# Altium schematic symbol library varistor.SCHLIB: 116 symbols
Pins are listed as number, name and electrical type; pins without a type are passive.

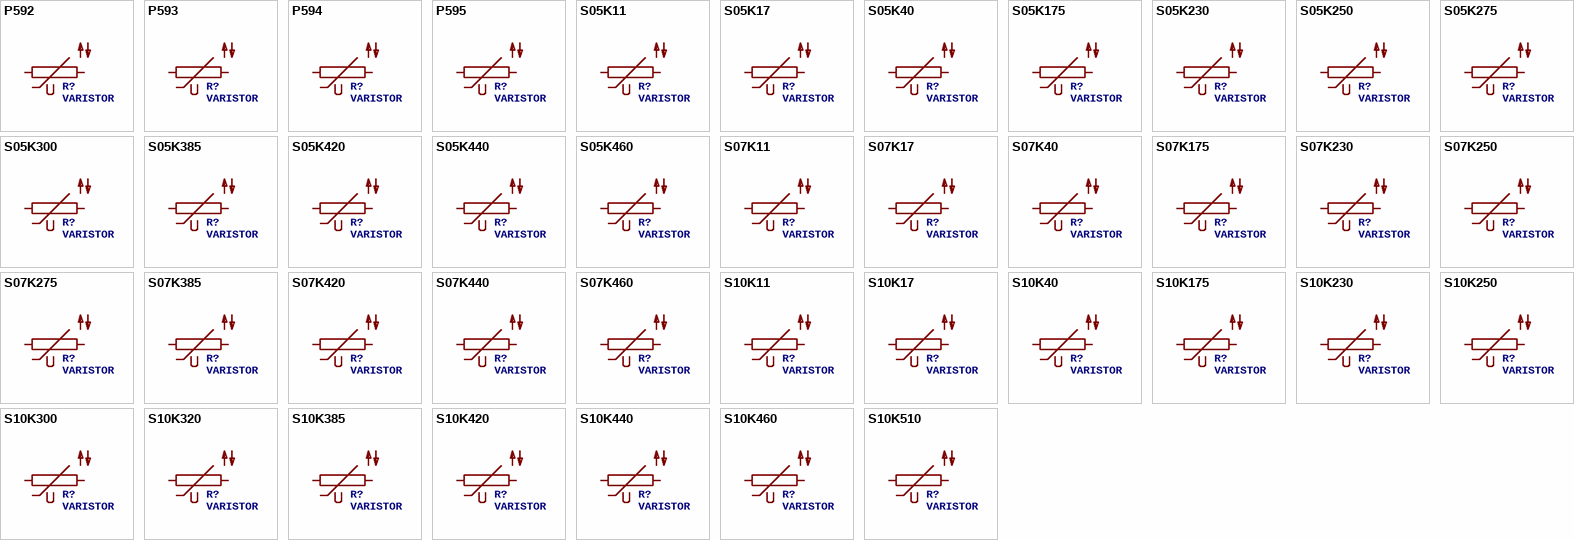
[diagram p0: symbols P592 to S10K510]

## P592
designator R?, comment VARISTOR
footprint P592
pins: 1, 2

## P593
designator R?, comment VARISTOR
footprint P593
pins: 1, 2

## P594
designator R?, comment VARISTOR
footprint P594
pins: 1, 2

## P595
designator R?, comment VARISTOR
footprint P595
pins: 1, 2

## S05K11
designator R?, comment VARISTOR
footprint S05K11
pins: 1, 2

## S05K17
designator R?, comment VARISTOR
footprint S05K17
pins: 1, 2

## S05K40
designator R?, comment VARISTOR
footprint S05K40
pins: 1, 2

## S05K175
designator R?, comment VARISTOR
footprint S05K175
pins: 1, 2

## S05K230
designator R?, comment VARISTOR
footprint S05K230
pins: 1, 2

## S05K250
designator R?, comment VARISTOR
footprint S05K250
pins: 1, 2

## S05K275
designator R?, comment VARISTOR
footprint S05K275
pins: 1, 2

## S05K300
designator R?, comment VARISTOR
footprint S05K300
pins: 1, 2

## S05K385
designator R?, comment VARISTOR
footprint S05K385
pins: 1, 2

## S05K420
designator R?, comment VARISTOR
footprint S05K420
pins: 1, 2

## S05K440
designator R?, comment VARISTOR
footprint S05K440
pins: 1, 2

## S05K460
designator R?, comment VARISTOR
footprint S05K460
pins: 1, 2

## S07K11
designator R?, comment VARISTOR
footprint S07K11
pins: 1, 2

## S07K17
designator R?, comment VARISTOR
footprint S07K17
pins: 1, 2

## S07K40
designator R?, comment VARISTOR
footprint S07K40
pins: 1, 2

## S07K175
designator R?, comment VARISTOR
footprint S07K175
pins: 1, 2

## S07K230
designator R?, comment VARISTOR
footprint S07K230
pins: 1, 2

## S07K250
designator R?, comment VARISTOR
footprint S07K250
pins: 1, 2

## S07K275
designator R?, comment VARISTOR
footprint S07K275
pins: 1, 2

## S07K385
designator R?, comment VARISTOR
footprint S07K385
pins: 1, 2

## S07K420
designator R?, comment VARISTOR
footprint S07K420
pins: 1, 2

## S07K440
designator R?, comment VARISTOR
footprint S07K440
pins: 1, 2

## S07K460
designator R?, comment VARISTOR
footprint S07K460
pins: 1, 2

## S10K11
designator R?, comment VARISTOR
footprint S10K11
pins: 1, 2

## S10K17
designator R?, comment VARISTOR
footprint S10K17
pins: 1, 2

## S10K40
designator R?, comment VARISTOR
footprint S10K40
pins: 1, 2

## S10K175
designator R?, comment VARISTOR
footprint S10K175
pins: 1, 2

## S10K230
designator R?, comment VARISTOR
footprint S10K230
pins: 1, 2

## S10K250
designator R?, comment VARISTOR
footprint S10K250
pins: 1, 2

## S10K300
designator R?, comment VARISTOR
footprint S10K300
pins: 1, 2

## S10K320
designator R?, comment VARISTOR
footprint S10K320
pins: 1, 2

## S10K385
designator R?, comment VARISTOR
footprint S10K385
pins: 1, 2

## S10K420
designator R?, comment VARISTOR
footprint S10K420
pins: 1, 2

## S10K440
designator R?, comment VARISTOR
footprint S10K440
pins: 1, 2

## S10K460
designator R?, comment VARISTOR
footprint S10K460
pins: 1, 2

## S10K510
designator R?, comment VARISTOR
footprint S10K510
pins: 1, 2

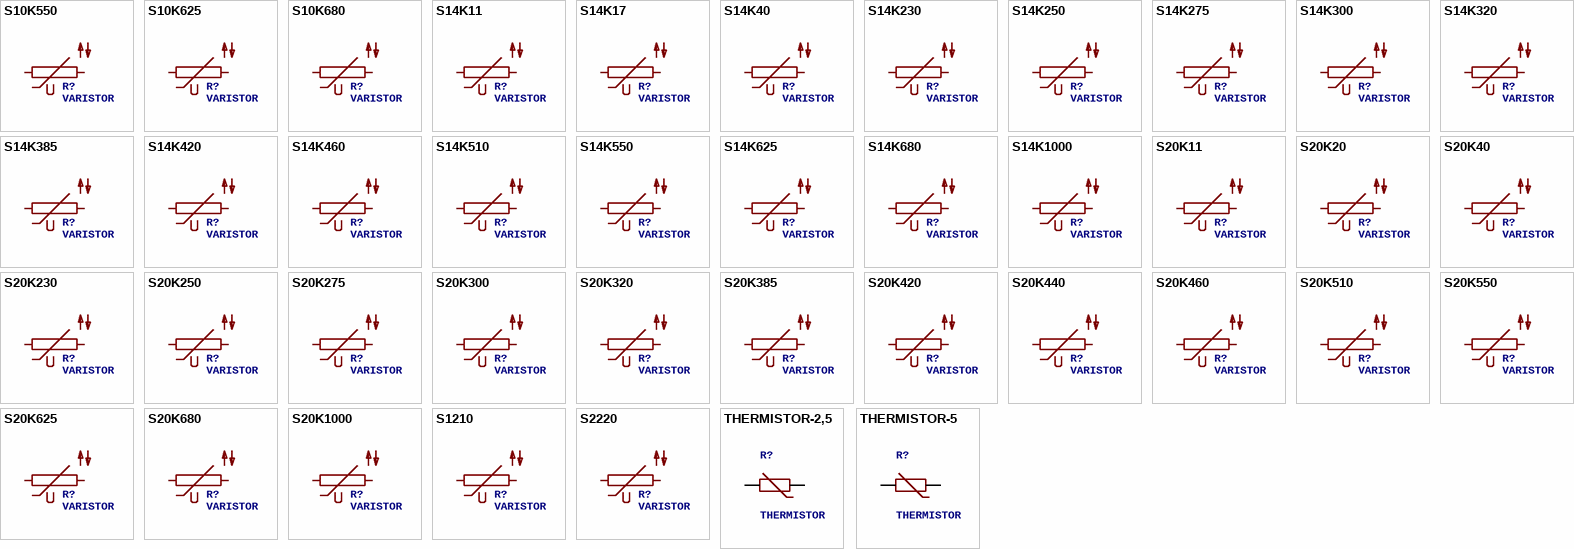
[diagram p1: symbols S10K550 to THERMISTOR-5]

## S10K550
designator R?, comment VARISTOR
footprint S10K550
pins: 1, 2

## S10K625
designator R?, comment VARISTOR
footprint S10K625
pins: 1, 2

## S10K680
designator R?, comment VARISTOR
footprint S10K680
pins: 1, 2

## S14K11
designator R?, comment VARISTOR
footprint S14K11
pins: 1, 2

## S14K17
designator R?, comment VARISTOR
footprint S14K17
pins: 1, 2

## S14K40
designator R?, comment VARISTOR
footprint S14K40
pins: 1, 2

## S14K230
designator R?, comment VARISTOR
footprint S14K230
pins: 1, 2

## S14K250
designator R?, comment VARISTOR
footprint S14K250
pins: 1, 2

## S14K275
designator R?, comment VARISTOR
footprint S14K275
pins: 1, 2

## S14K300
designator R?, comment VARISTOR
footprint S14K300
pins: 1, 2

## S14K320
designator R?, comment VARISTOR
footprint S14K320
pins: 1, 2

## S14K385
designator R?, comment VARISTOR
footprint S14K385
pins: 1, 2

## S14K420
designator R?, comment VARISTOR
footprint S14K420
pins: 1, 2

## S14K460
designator R?, comment VARISTOR
footprint S14K460
pins: 1, 2

## S14K510
designator R?, comment VARISTOR
footprint S14K510
pins: 1, 2

## S14K550
designator R?, comment VARISTOR
footprint S14K550
pins: 1, 2

## S14K625
designator R?, comment VARISTOR
footprint S14K625
pins: 1, 2

## S14K680
designator R?, comment VARISTOR
footprint S14K680
pins: 1, 2

## S14K1000
designator R?, comment VARISTOR
footprint S14K1000
pins: 1, 2

## S20K11
designator R?, comment VARISTOR
footprint S20K11
pins: 1, 2

## S20K20
designator R?, comment VARISTOR
footprint S20K20
pins: 1, 2

## S20K40
designator R?, comment VARISTOR
footprint S20K40
pins: 1, 2

## S20K230
designator R?, comment VARISTOR
footprint S20K230
pins: 1, 2

## S20K250
designator R?, comment VARISTOR
footprint S20K250
pins: 1, 2

## S20K275
designator R?, comment VARISTOR
footprint S20K275
pins: 1, 2

## S20K300
designator R?, comment VARISTOR
footprint S20K300
pins: 1, 2

## S20K320
designator R?, comment VARISTOR
footprint S20K320
pins: 1, 2

## S20K385
designator R?, comment VARISTOR
footprint S20K385
pins: 1, 2

## S20K420
designator R?, comment VARISTOR
footprint S20K420
pins: 1, 2

## S20K440
designator R?, comment VARISTOR
footprint S20K440
pins: 1, 2

## S20K460
designator R?, comment VARISTOR
footprint S20K460
pins: 1, 2

## S20K510
designator R?, comment VARISTOR
footprint S20K510
pins: 1, 2

## S20K550
designator R?, comment VARISTOR
footprint S20K550
pins: 1, 2

## S20K625
designator R?, comment VARISTOR
footprint S20K625
pins: 1, 2

## S20K680
designator R?, comment VARISTOR
footprint S20K680
pins: 1, 2

## S20K1000
designator R?, comment VARISTOR
footprint S20K1000
pins: 1, 2

## S1210
designator R?, comment VARISTOR
footprint S1210
pins: 1, 2

## S2220
designator R?, comment VARISTOR
footprint S2220
pins: 1, 2

## THERMISTOR-2,5
designator R?, comment THERMISTOR
footprint RS-2,5
pins: 1, 2

## THERMISTOR-5
designator R?, comment THERMISTOR
footprint R-5
pins: 1, 2

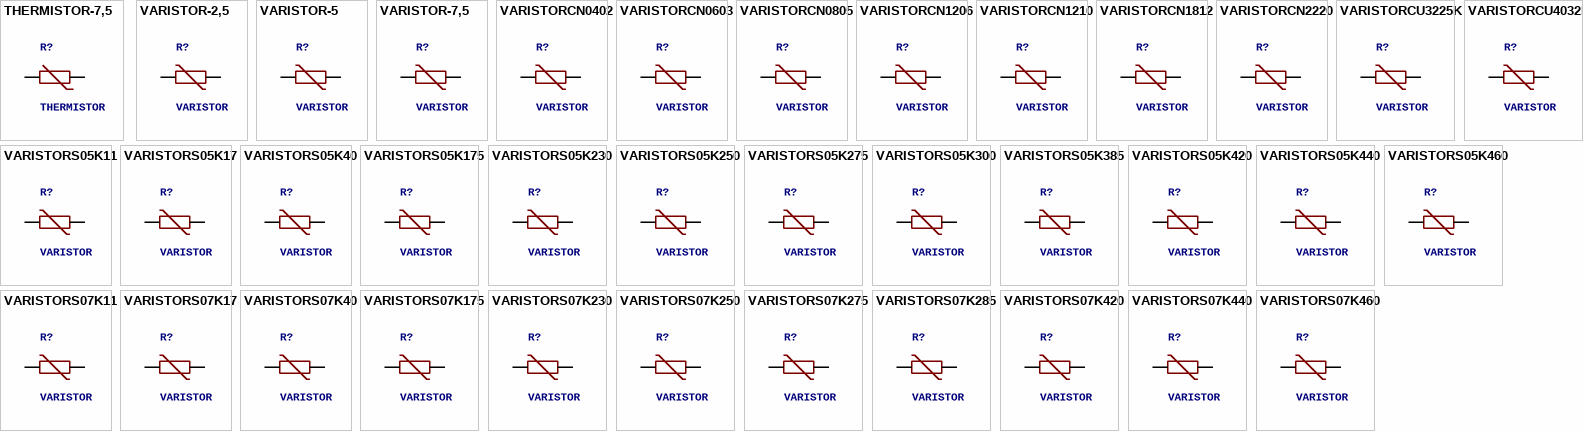
[diagram p2: symbols THERMISTOR-7,5 to VARISTORS07K460]

## THERMISTOR-7,5
designator R?, comment THERMISTOR
footprint R-7,5
pins: 1, 2

## VARISTOR-2,5
designator R?, comment VARISTOR
footprint R-5
pins: 1, 2

## VARISTOR-5
designator R?, comment VARISTOR
footprint R-5
pins: 1, 2

## VARISTOR-7,5
designator R?, comment VARISTOR
footprint R-7,5
pins: 1, 2

## VARISTORCN0402
designator R?, comment VARISTOR
footprint CT/CN0402
pins: 1, 2

## VARISTORCN0603
designator R?, comment VARISTOR
footprint CT/CN0603
pins: 1, 2

## VARISTORCN0805
designator R?, comment VARISTOR
footprint CT/CN0805
pins: 1, 2

## VARISTORCN1206
designator R?, comment VARISTOR
footprint CT/CN1206
pins: 1, 2

## VARISTORCN1210
designator R?, comment VARISTOR
footprint CT/CN1210
pins: 1, 2

## VARISTORCN1812
designator R?, comment VARISTOR
footprint CT/CN1812
pins: 1, 2

## VARISTORCN2220
designator R?, comment VARISTOR
footprint CT/CN2220
pins: 1, 2

## VARISTORCU3225K
designator R?, comment VARISTOR
footprint CU3225K
pins: 1, 2

## VARISTORCU4032K
designator R?, comment VARISTOR
footprint CU4032K
pins: 1, 2

## VARISTORS05K11
designator R?, comment VARISTOR
footprint S05K11
pins: 1, 2

## VARISTORS05K17
designator R?, comment VARISTOR
footprint S05K17
pins: 1, 2

## VARISTORS05K40
designator R?, comment VARISTOR
footprint S05K40
pins: 1, 2

## VARISTORS05K175
designator R?, comment VARISTOR
footprint S05K175
pins: 1, 2

## VARISTORS05K230
designator R?, comment VARISTOR
footprint S05K230
pins: 1, 2

## VARISTORS05K250
designator R?, comment VARISTOR
footprint S05K250
pins: 1, 2

## VARISTORS05K275
designator R?, comment VARISTOR
footprint S05K275
pins: 1, 2

## VARISTORS05K300
designator R?, comment VARISTOR
footprint S05K300
pins: 1, 2

## VARISTORS05K385
designator R?, comment VARISTOR
footprint S05K385
pins: 1, 2

## VARISTORS05K420
designator R?, comment VARISTOR
footprint S05K420
pins: 1, 2

## VARISTORS05K440
designator R?, comment VARISTOR
footprint S05K440
pins: 1, 2

## VARISTORS05K460
designator R?, comment VARISTOR
footprint S05K460
pins: 1, 2

## VARISTORS07K11
designator R?, comment VARISTOR
footprint S07K11
pins: 1, 2

## VARISTORS07K17
designator R?, comment VARISTOR
footprint S07K17
pins: 1, 2

## VARISTORS07K40
designator R?, comment VARISTOR
footprint S07K40
pins: 1, 2

## VARISTORS07K175
designator R?, comment VARISTOR
footprint S07K175
pins: 1, 2

## VARISTORS07K230
designator R?, comment VARISTOR
footprint S07K230
pins: 1, 2

## VARISTORS07K250
designator R?, comment VARISTOR
footprint S07K250
pins: 1, 2

## VARISTORS07K275
designator R?, comment VARISTOR
footprint S07K275
pins: 1, 2

## VARISTORS07K285
designator R?, comment VARISTOR
footprint S07K385
pins: 1, 2

## VARISTORS07K420
designator R?, comment VARISTOR
footprint S07K420
pins: 1, 2

## VARISTORS07K440
designator R?, comment VARISTOR
footprint S07K440
pins: 1, 2

## VARISTORS07K460
designator R?, comment VARISTOR
footprint S07K460
pins: 1, 2